# Altium footprint library 二三极管 MOS.PCBLIB: 88 footprints (part 1 of 6)
Each footprint in its own frame and in the unit in brackets; x right, y up, seen from the top. Pads: shape width x height; smd on the part's side, far side on the other; paste and mask are expansions set on the pad; w line width, h text height; cw(c..) or ccw(c..) is an arc to the next point about the centre after c.
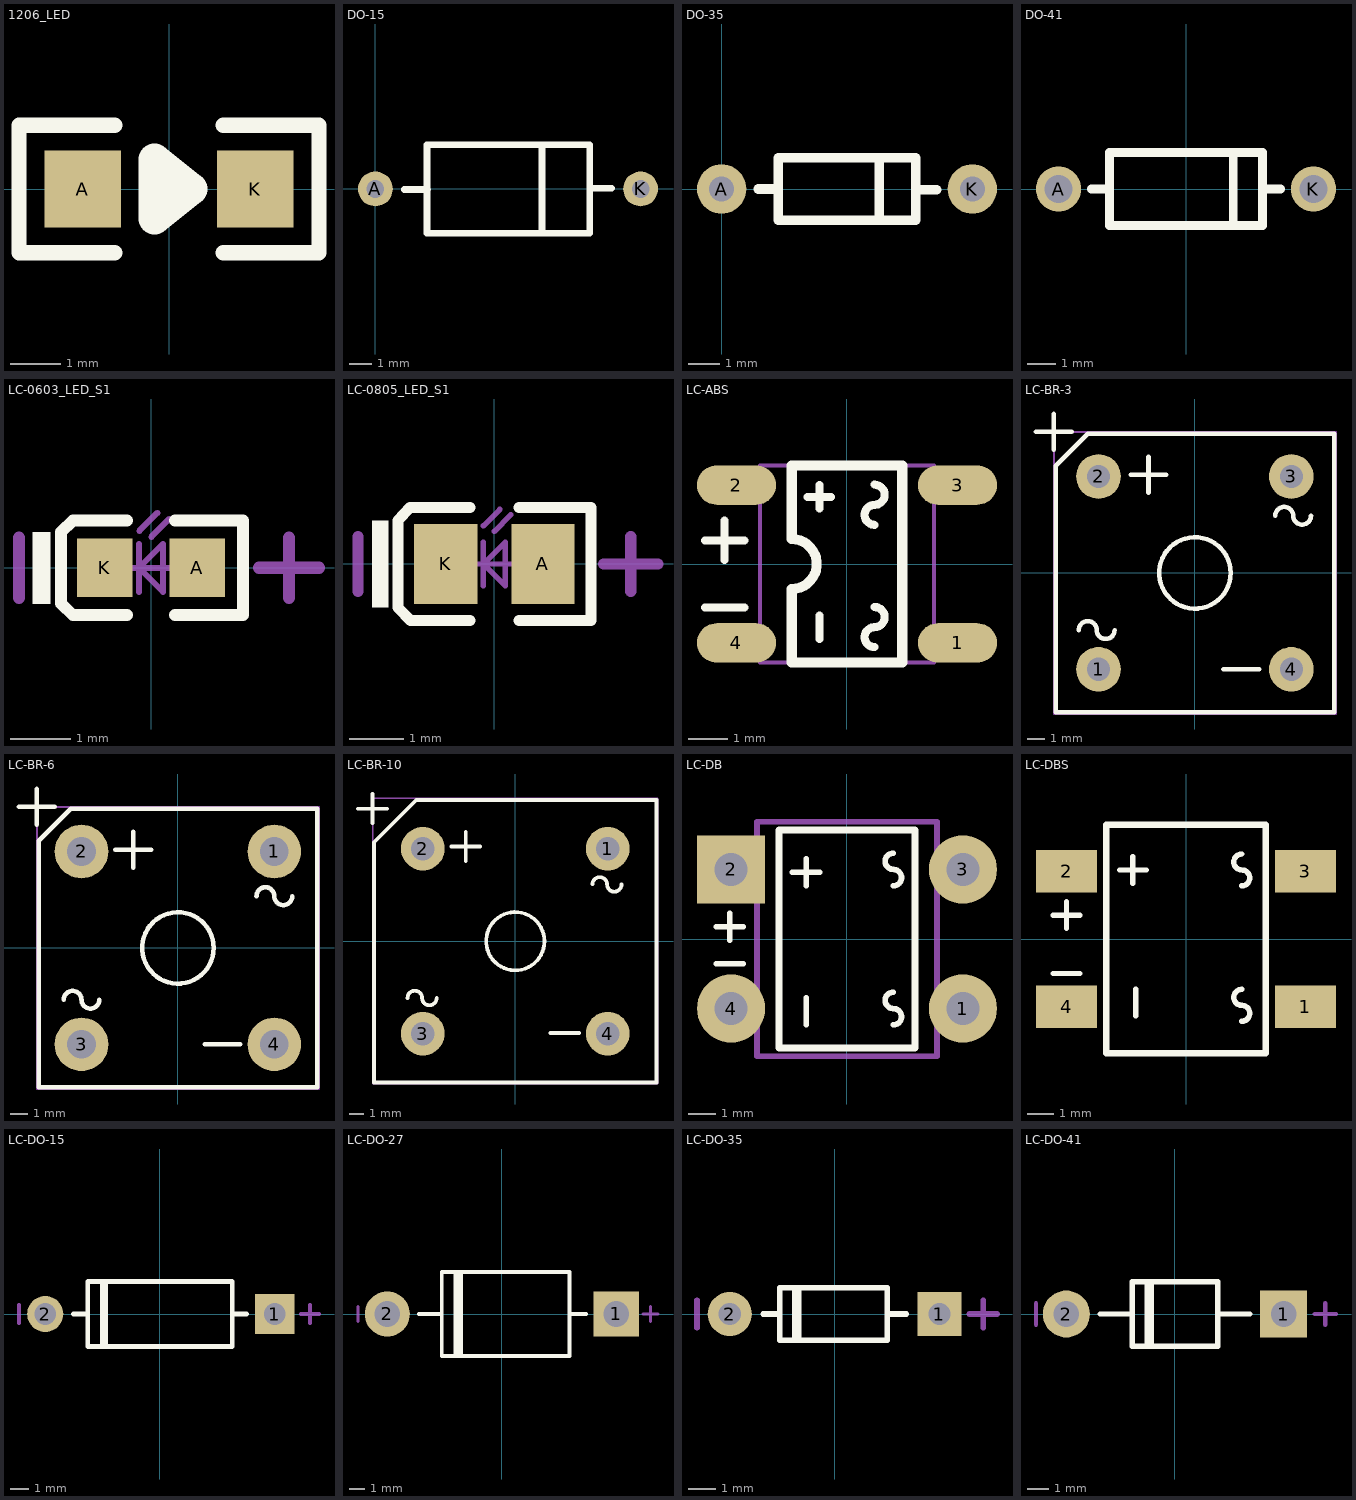
[diagram p0: the footprints below, top view; thin cyan lines are the x and y axes]

## 1206_LED [mil]
height 150
pads (2):
  rect 60x60 smd: A(-67.5,0) K(67.5,0)
TopOverlay:
  lines w12: -42.5,-50 -117.5,-50 -117.5,50 -42.5,50 ; 42.5,-50 117.5,-50 117.5,50 42.5,50
  lines w25: -11.5,-23 17.5,0 -11.5,23 -11.5,-23

## DO-15 [mil]
pads (2):
  round 62 hole 31.5: A(0,0) K(472.44,0)
TopOverlay:
  lines w12: 51.18,-1 93,-1 ; 92,-78.74 381.89,-78.74 ; 92,-78 92,78.48 ; 92,78.74 381.89,78.74 ; 297,-78.74 297,78.74 ; 382,-79 382,78.48 ; 388,1 421.26,1

## DO-35 [mil]
pads (2):
  round 62 hole 31.5: A(0,0) K(314.96,0)
TopOverlay:
  lines w12: 46,0 71,0 ; 198,-39.37 198,39.37 ; 245,-1 270,-1 ; 71,-39.37 71,39.37 244,39.37 244,-39.37 71,-39.37

## DO-41 [mil]
pads (2):
  round 62 hole 38: A(-175,0) K(175,0)
TopOverlay:
  lines w12: -130,0 -105,0 ; 65,-50 65,50 ; 105,0 130,0 ; -105,-50 105,-50 105,50 -105,50 -105,-50

## LC-0603_LED_S1 [mm]
pads (2):
  rect 0.93x0.98 smd: A(0.77,0) K(-0.77,0)
TopOverlay:
  rectangle: -1.975,-0.6 -1.675,0.6
  lines w0.2: -0.4,-0.79 -1.3,-0.79 -1.5,-0.597 -1.5,0.597 -1.3,0.79 -0.4,0.79 ; 0.4,-0.79 1.535,-0.79 1.535,0.79 0.4,0.79
Mechanical13:
  lines w0.1: -0.4,0 0.4,0 ; -0.2,-0.4 -0.2,0.4 ; -0.195,0.617 0.105,0.917 ; 0.005,0.517 0.305,0.817 ; -0.2,0 0.2,-0.4 0.2,0.4 -0.2,0
Mechanical15:
  lines w0.203: -2.2,-0.5 -2.2,0.5 ; 1.8,0 2.8,0 ; 2.3,-0.5 2.3,0.5
3D body: height 0.6, standoff 0, extent -0.8,-0.4 0.8,0.4

## LC-0805_LED_S1 [mm]
pads (2):
  rect 1.16x1.47 smd: A(0.89,0) K(-0.89,0)
TopOverlay:
  rectangle: -2.245,-0.8 -1.945,0.8
  lines w0.2: -0.45,-1.035 -1.535,-1.035 -1.77,-0.8 -1.77,0.8 -1.55,1.035 -0.45,1.035 ; 0.45,-1.035 1.77,-1.035 1.77,1.035 0.45,1.035
Mechanical13:
  lines w0.1: -0.4,0 0.4,0 ; -0.2,-0.4 -0.2,0.4 ; -0.2,0.7 0.1,1 ; 0,0.6 0.3,0.9 ; -0.2,0 0.2,-0.4 0.2,0.4 -0.2,0
Mechanical15:
  lines w0.203: -2.5,-0.5 -2.5,0.5 ; 2,0 3,0 ; 2.5,-0.5 2.5,0.5
3D body: height 1.1, standoff 0, extent -1.01,-0.625 1.01,0.625

## LC-ABS [mm]
pads (4):
  oval 2x1 smd: 1(2.8,-2) 2(-2.8,2) 3(2.8,2) 4(-2.8,-2)
TopOverlay:
  lines w0.203: -3.6,-1.1 -2.6,-1.1 ; -3.6,0.6 -2.6,0.6 ; -3.1,0.1 -3.1,1.1 ; -1,1.7 -0.4,1.7 ; -0.7,-1.9 -0.7,-1.3 ; -0.7,1.4 -0.7,2 ; 0.7,-2.108 cw(c0.7,-1.854) 0.7,-1.6 ccw(c0.7,-1.346) 0.7,-1.092 ; 0.7,0.992 cw(c0.7,1.246) 0.7,1.5 ccw(c0.7,1.754) 0.7,2.008
  lines w0.254: -1.4,-2.5 1.4,-2.5 1.4,2.5 -1.4,2.5 -1.4,0.635 cw(c-1.4,0) -1.4,-0.635 -1.4,-2.5
Mechanical13:
  lines w0.1: -2.2,-2.5 2.2,-2.5 2.2,2.5 -2.2,2.5 -2.2,-2.5

## LC-BR-3 [mm]
pads (4):
  round 2.5 hole 1.3: 1(-5.4,-5.4) 2(-5.4,5.4) 3(5.4,5.4) 4(5.4,-5.4)
TopOverlay:
  circle w0.254: c0,0 r2
  lines w0.254: -8.9,7.9 -6.9,7.9 ; -7.9,6.9 -7.9,8.9 ; -6.5,-3.2 cw(c-6,-3.2) -5.5,-3.2 ccw(c-5,-3.2) -4.5,-3.2 ; -3.6,5.5 -1.6,5.5 ; -2.6,4.5 -2.6,6.5 ; 1.6,-5.4 3.6,-5.4 ; 4.5,3.2 cw(c5,3.2) 5.5,3.2 ccw(c6,3.2) 6.5,3.2 ; -7.8,-7.8 7.8,-7.8 7.8,7.8 -6,7.8 -7.8,6 -7.8,-7.8
Mechanical13:
  lines w0.1: -7.9,-7.9 7.9,-7.9 7.9,7.9 -7.9,7.9 -7.9,-7.9

## LC-BR-6 [mm]
pads (4):
  round 3 hole 1.6: 1(5.4,5.4) 2(-5.4,5.4) 3(-5.4,-5.4) 4(5.4,-5.4)
TopOverlay:
  circle w0.254: c0,0 r2
  lines w0.254: -8.9,7.9 -6.9,7.9 ; -7.9,6.9 -7.9,8.9 ; -6.4,-2.9 cw(c-5.9,-2.9) -5.4,-2.9 ccw(c-4.9,-2.9) -4.4,-2.9 ; -3.5,5.5 -1.5,5.5 ; -2.5,4.5 -2.5,6.5 ; 1.5,-5.4 3.5,-5.4 ; 4.4,2.9 cw(c4.9,2.9) 5.4,2.9 ccw(c5.9,2.9) 6.4,2.9 ; -7.8,-7.8 7.8,-7.8 7.8,7.8 -6,7.8 -7.8,6 -7.8,-7.8
Mechanical13:
  lines w0.1: -7.9,-7.9 7.9,-7.9 7.9,7.9 -7.9,7.9 -7.9,-7.9

## LC-BR-10 [mm]
pads (4):
  round 3 hole 1.6: 1(6.35,6.35) 2(-6.35,6.35) 3(-6.35,-6.35) 4(6.35,-6.35)
TopOverlay:
  circle w0.254: c0,0 r2
  lines w0.254: -10.8,9.1 -8.8,9.1 ; -9.8,8.1 -9.8,10.1 ; -7.4,-3.9 cw(c-6.9,-3.9) -6.4,-3.9 ccw(c-5.9,-3.9) -5.4,-3.9 ; -4.4,6.5 -2.4,6.5 ; -3.4,5.5 -3.4,7.5 ; 2.4,-6.3 4.4,-6.3 ; 5.3,3.9 cw(c5.8,3.9) 6.3,3.9 ccw(c6.8,3.9) 7.3,3.9 ; -9.7,-9.7 9.7,-9.7 9.7,9.7 -6.8,9.7 -9.7,6.8 -9.7,-9.7
Mechanical13:
  lines w0.1: -9.8,-9.8 9.8,-9.8 9.8,9.8 -9.8,9.8 -9.8,-9.8

## LC-DB [mm]
pads (4):
  round 2.5 hole 1.2: 1(4.25,-2.55) 3(4.25,2.55) 4(-4.25,-2.55)
  rect 2.5x2.5 hole 1.2: 2(-4.25,2.55)
TopOverlay:
  lines w0.203: -4.8,-0.9 -3.8,-0.9 ; -4.8,0.45 -3.8,0.45 ; -4.3,-0.05 -4.3,0.95 ; -2,2.45 -1,2.45 ; -1.5,-3.15 -1.5,-2.15 ; -1.5,1.95 -1.5,2.95 ; 1.7,-3.15 ccw(c1.7,-2.85) 1.7,-2.55 cw(c1.7,-2.25) 1.7,-1.95 ; 1.7,1.95 ccw(c1.7,2.25) 1.7,2.55 cw(c1.7,2.85) 1.7,3.15
  lines w0.254: -2.5,-4 2.5,-4 2.5,4 -2.5,4 -2.5,-4
Mechanical13:
  lines w0.203: -3.3,-4.3 -3.3,4.3 3.3,4.3 3.3,-4.3 -3.3,-4.3

## LC-DBS [mm]
pads (4):
  rect 2.3x1.6 smd: 1(4.5,-2.55) 2(-4.5,2.55) 3(4.5,2.55) 4(-4.5,-2.55)
TopOverlay:
  lines w0.203: -5,-1.3 -4,-1.3 ; -5,0.9 -4,0.9 ; -4.5,0.4 -4.5,1.4 ; -2.5,2.6 -1.5,2.6 ; -2,2.1 -2,3.1 ; -1.9,-2.9 -1.9,-1.9 ; 2.1,-3.1 ccw(c2.1,-2.8) 2.1,-2.5 cw(c2.1,-2.2) 2.1,-1.9 ; 2.1,2 ccw(c2.1,2.3) 2.1,2.6 cw(c2.1,2.9) 2.1,3.2
  lines w0.254: -3,-4.3 3,-4.3 3,4.3 -3,4.3 -3,-4.3

## LC-DO-15 [mm]
pads (2):
  rect 2.2x2.2 hole 1.2: 1(6.35,0)
  round 2 hole 1.2: 2(-6.35,0)
TopOverlay:
  lines w0.254: -4.8,0 -4,0 ; -3.2,-1.8 -3.2,1.8 ; -3,-1.8 -3,1.8 ; 4,0 4.8,0 ; -4,-1.8 -4,1.8 4,1.8 4,-1.8 -4,-1.8
Mechanical15:
  lines w0.203: -7.8,-0.5 -7.8,0.5 ; 7.8,0 8.8,0 ; 8.3,-0.5 8.3,0.5
3D body: height 4.03, standoff -1.5, extent -6.875,-1.749 6.875,1.748

## LC-DO-27 [mm]
pads (2):
  rect 3x3 hole 1.7: 1(7.62,0)
  round 3 hole 1.7: 2(-7.62,0)
TopOverlay:
  lines w0.254: -5.5,0 -4,0 ; -3.1,-2.8 -3.1,2.8 ; -2.9,-2.8 -2.9,2.8 ; -2.7,-2.8 -2.7,2.8 ; 4.5,0 5.6,0 ; -4,-2.8 4.5,-2.8 4.5,2.8 -4,2.8 -4,-2.8
Mechanical15:
  lines w0.203: -9.57,-0.5 -9.57,0.5 ; 9.4,0 10.4,0 ; 9.9,-0.5 9.9,0.5
3D body: height 6.6, standoff -5, extent -8.28,-2.8 8.28,2.8

## LC-DO-35 [mm]
pads (2):
  rect 1.6x1.6 hole 0.8: 1(3.81,0)
  round 1.6 hole 0.8: 2(-3.81,0)
TopOverlay:
  lines w0.2: -2.6,0 -2.001,0 ; -1.448,-0.95 -1.448,0.95 ; -1.3,-0.95 -1.3,0.95 ; 1.899,-0.95 -2.001,-0.95 -2.001,0.95 1.899,0.95 ; 1.911,-0.95 1.911,0.95 ; 1.911,0 2.6,0
Mechanical15:
  lines w0.203: -5,-0.5 -5,0.5 ; 4.9,0 5.9,0 ; 5.4,-0.5 5.4,0.5
3D body: height 1.92, standoff -1.9, extent -4.098,-0.888 4.072,0.914

## LC-DO-41 [mm]
pads (2):
  rect 2.2x2.2 hole 1.2: 1(5.08,0)
  round 2.2 hole 1.2: 2(-5.08,0)
TopOverlay:
  lines w0.254: -3.5,0 -2,0 ; -1.3,-1.4 -1.3,1.5 ; -1.1,-1.5 -1.1,1.4 ; 2,0 3.5,0 ; -2,-1.5 -2,1.5 2,1.5 2,-1.5 -2,-1.5
Mechanical15:
  lines w0.203: -6.5,-0.5 -6.5,0.5 ; 6.53,0 7.53,0 ; 7.03,-0.5 7.03,0.5
3D body: height 3.35, standoff -2, extent -5.51,-1.35 5.51,1.35